# EAGLE library part HCTL2016 (library klaus)
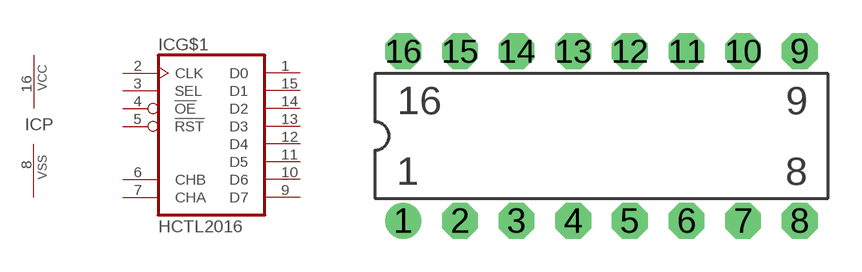
[diagram p1: symbol with the pads of DIL-16; footprint DIL-16]

Designator prefix IC; gates G$1=HCTL2016 P=PWRN

## HCTL2016  [DIL-16]
1  G$1:D0  out
2  G$1:CLK  in
3  G$1:SEL  in
4  G$1:!OE  in
5  G$1:!RST  in
6  G$1:CHB  in
7  G$1:CHA  in
8  P:VSS  pwr
9  G$1:D7  out
10  G$1:D6  out
11  G$1:D5  out
12  G$1:D4  out
13  G$1:D3  out
14  G$1:D2  out
15  G$1:D1  out
16  P:VCC  pwr

## Footprint DIL-16 (pad centres in mm)
drill 0.813 pad 1.6: 1 -8.89,-3.81
drill 0.813 pad 1.6 octagon: 2 -6.35,-3.81; 3 -3.81,-3.81; 4 -1.27,-3.81; 5 1.27,-3.81; 6 3.81,-3.81; 7 6.35,-3.81; 8 8.89,-3.81; 9 8.89,3.81; 10 6.35,3.81; 11 3.81,3.81; 12 1.27,3.81; 13 -1.27,3.81; 14 -3.81,3.81; 15 -6.35,3.81; 16 -8.89,3.81